# EAGLE library part TXE-XXX-KH2 (library linx)
KH2 SERIES TRANSMITTER / ENCODER Source: http://www.linxtechnologies.com .. TXE-xxx-KH2_Data_Guide.pdf
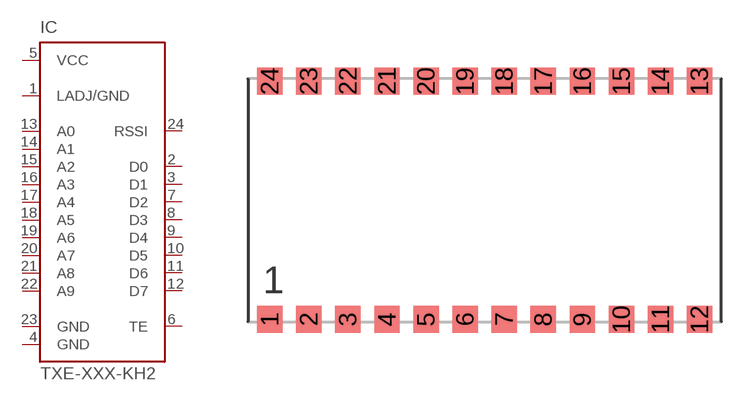
[diagram p3: symbol with the pads of TXD-XXX-KH2; footprint TXD-XXX-KH2]

Designator prefix IC

## TXE-XXX-KH2 (OC_FARNELL: unknown; OC_NEWARK: unknown)  [TXD-XXX-KH2]
1  LADJ/GND  in
2  D0  in
3  D1  in
4  GND  pwr
5  VCC  pwr
6  TE  in
7  D2  in
8  D3  in
9  D4  in
10  D5  in
11  D6  in
12  D7  in
13  A0  in
14  A1  in
15  A2  in
16  A3  in
17  A4  in
18  A5  in
19  A6  in
20  A7  in
21  A8  in
22  A9  in
23  GND  pwr
24  RSSI  in

## Footprint TXD-XXX-KH2 (pad centres in mm)
TXD-xxx-KH2 Source: All Packages.pdf
smd 1.651 x 1.778: 1 -13.97,-7.747; 2 -11.43,-7.747; 3 -8.89,-7.747; 4 -6.35,-7.747; 5 -3.81,-7.747; 6 -1.27,-7.747; 7 1.27,-7.747; 8 3.81,-7.747; 9 6.35,-7.747; 10 8.89,-7.747; 11 11.43,-7.747; 12 13.97,-7.747; 13 13.97,7.747; 14 11.43,7.747; 15 8.89,7.747; 16 6.35,7.747; 17 3.81,7.747; 18 1.27,7.747; 19 -1.27,7.747; 20 -3.81,7.747; 21 -6.35,7.747; 22 -8.89,7.747; 23 -11.43,7.747; 24 -13.97,7.747